# Altium footprint library Digital_Sampling_Board-20200820.PcbLib: 34 footprints (part 2 of 3)
Each footprint in its own frame and in the unit in brackets; x right, y up, seen from the top. Pads: shape width x height; smd on the part's side, far side on the other; paste and mask are expansions set on the pad; w line width, h text height; cw(c..) or ccw(c..) is an arc to the next point about the centre after c.
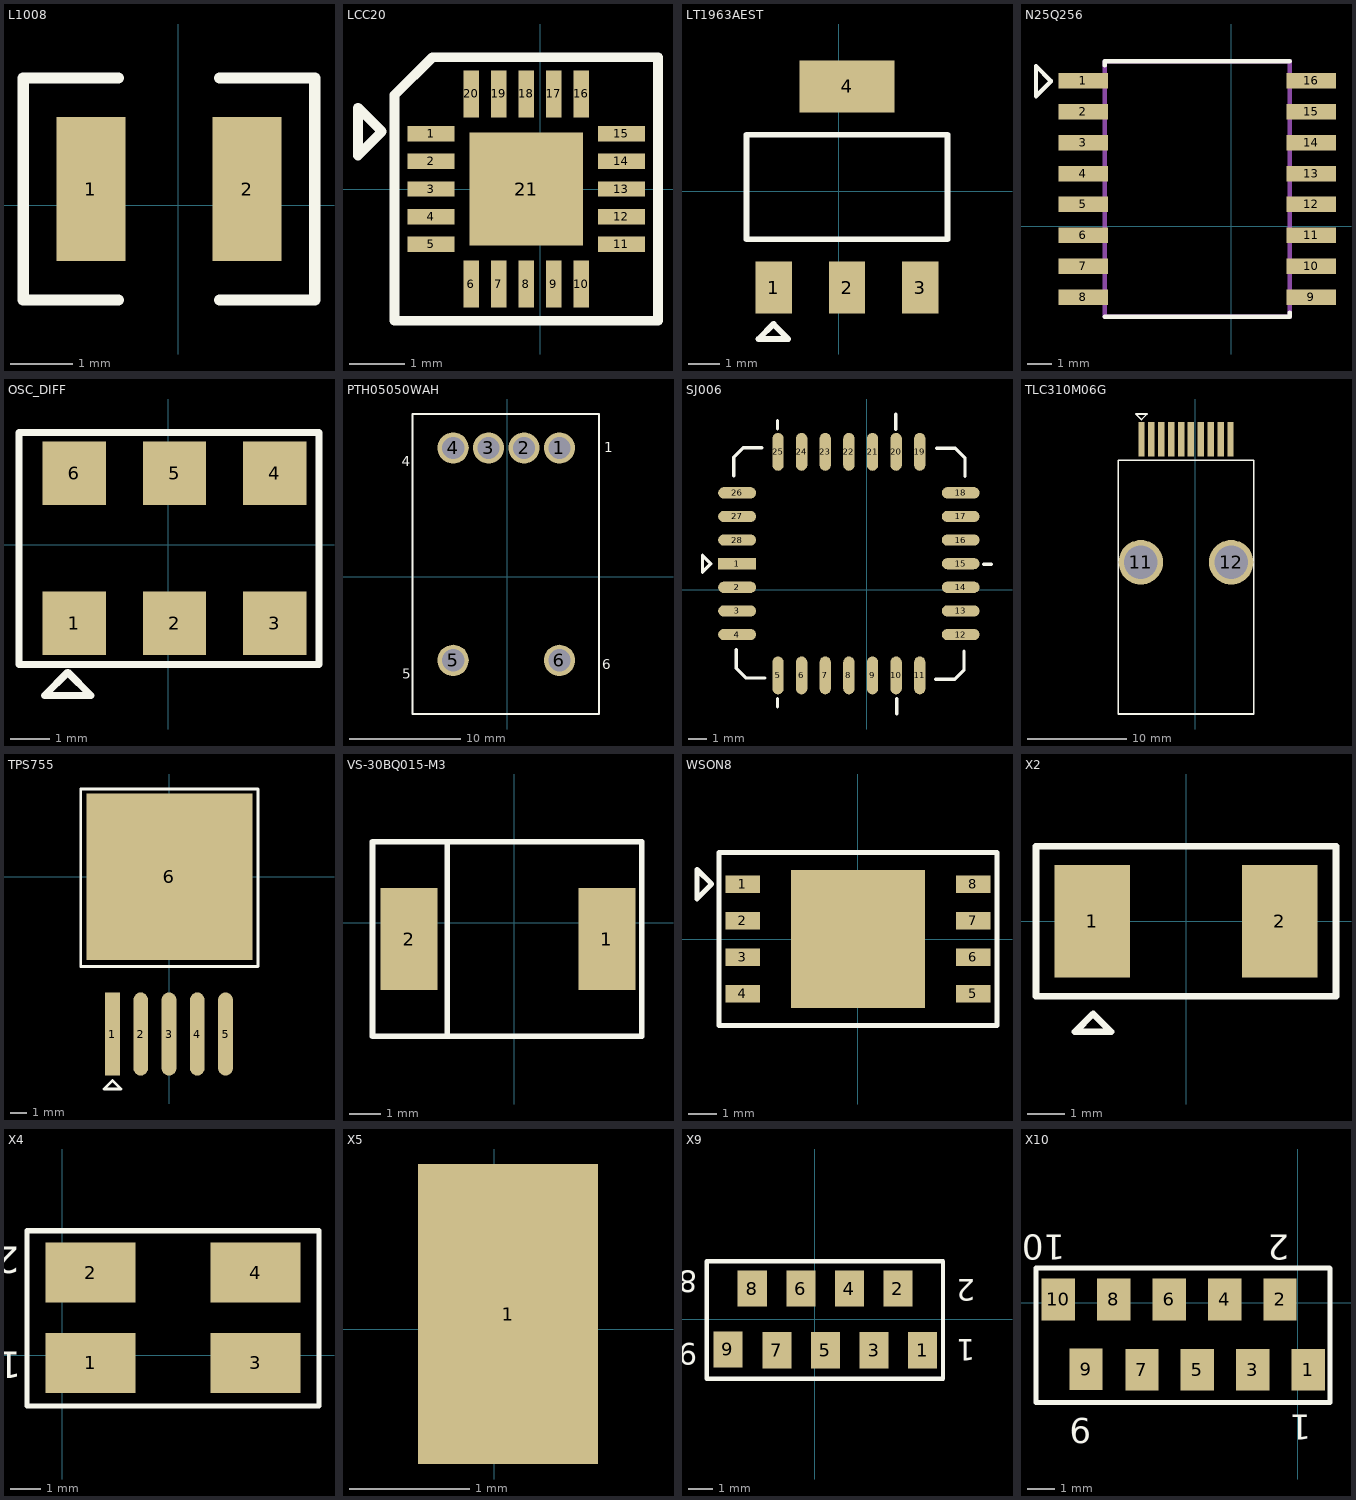
[diagram p1: the footprints below, top view; thin cyan lines are the x and y axes]

## L1008 [mm]
pads (2):
  rect 1.1x2.3 smd: 1(-1.401,0.264) 2(1.099,0.264)
Top Overlay:
  lines w0.178: -0.959,-1.514 -2.483,-1.514 -2.483,2.042 -0.959,2.042 ; 0.657,-1.514 2.181,-1.514 2.181,2.042 0.657,2.042

## LCC20 [mm]
pads (21):
  rect 0.85x0.28 smd: 1(-1.979,1) 2(-1.979,0.5) 3(-1.979,0) 4(-1.979,-0.5) 5(-1.979,-1) 11(1.471,-1) 12(1.471,-0.5) 13(1.471,0) 14(1.471,0.5) 15(1.471,1)
  rect 0.28x0.85 smd: 6(-1.254,-1.725) 7(-0.754,-1.725) 8(-0.254,-1.725) 9(0.246,-1.725) 10(0.746,-1.725) 16(0.746,1.725) 17(0.246,1.725) 18(-0.254,1.725) 19(-0.754,1.725) 20(-1.254,1.725)
  rect 2.05x2.05 smd: 21(-0.254,0)
Top Overlay:
  lines w0.178: -3.302,0.61 -2.87,1.041 -3.302,1.473 -3.302,0.61 ; -2.642,-2.388 2.134,-2.388 2.134,2.388 -1.956,2.388 -2.642,1.702 -2.642,-2.388

## LT1963AEST [mil]
pads (4):
  rect 45x65 smd: 1(-81,-120) 2(10,-120) 3(101,-120)
  rect 118x65 smd: 4(10,130)
Top Overlay:
  lines w7: -81,-166 -63,-184 -100,-184 -81,-165 ; -115,-60 -115,70 135,70 135,-60 -115,-60

## N25Q256 [mil]
pads (16):
  rect 80x25 smd: 1(-239.5,235) 2(-239.5,185) 3(-239.5,135) 4(-239.5,85) 5(-239.5,35) 6(-239.5,-15) 7(-239.5,-65) 8(-239.5,-115) 9(129.5,-115) 10(129.5,-65) 11(129.5,-15) 12(129.5,35) 13(129.5,85) 14(129.5,135) 15(129.5,185) 16(129.5,235)
Top Overlay:
  lines w7: -292,234 -316,210 -316,259 -292,235 ; -204.5,-146.5 94.5,-146.5 94.5,-140 ; -204.5,260 -204.5,266.5 94.5,266.5
Mechanical 11:
  lines w7: -204.5,-146.5 94.5,-146.5 94.5,266.5 -204.5,266.5 -204.5,-146.5

## OSC_DIFF [mm]
pads (6):
  rect 1.6x1.6 smd: 1(-2.375,-1.984) 2(0.165,-1.984) 3(2.705,-1.984) 4(2.705,1.816) 5(0.165,1.816) 6(-2.375,1.816)
Top Overlay:
  lines w0.178: -3.775,-3.023 3.825,-3.023 3.825,2.845 -3.775,2.845 -3.775,-3.023 ; -3.124,-3.81 -2.54,-3.226 -1.956,-3.81 -3.124,-3.81

## PTH05050WAH [mm]
pads (6):
  round 2.8 hole 2: 1(4.699,11.557) 2(1.519,11.557) 3(-1.661,11.557) 4(-4.841,11.557) 5(-4.841,-7.503) 6(4.699,-7.503)
Top Overlay:
  lines w0.178: -8.509,-12.319 8.255,-12.319 8.255,14.605 -8.509,14.605 -8.509,-12.319
  text "6" at 8.534,-8.28 h0.89
  text "5" at -9.411,-9.147 h0.89
  text "1" at 8.712,11.176 h0.89
  text "4" at -9.439,9.901 h0.89

## SJ006 [mil]
pads (28):
  rect 80x23.62 smd: 1(-274.62,55.19)
  oval 80x24 smd: 2(-274.62,5.19) 3(-274.62,-44.81) 4(-274.62,-94.81) 12(198.61,-94.81) 13(198.61,-44.81) 14(198.61,5.19) 16(198.61,105.19) 17(198.61,155.19) 18(198.61,205.19) 26(-274.62,205.19) 27(-274.62,155.19) 28(-274.62,105.19)
  oval 24x80 smd: 5(-188.01,-181.43) 6(-138.01,-181.43) 7(-88.01,-181.43) 8(-38.01,-181.43) 9(11.99,-181.43) 10(61.99,-181.43) 11(111.99,-181.43) 19(111.99,291.8) 20(61.99,291.8) 21(11.99,291.8) 22(-38.01,291.8) 23(-88.01,291.8) 24(-138.01,291.8) 25(-188.01,291.8)
  oval 80x23.62 smd: 15(198.61,55.19)
Top Overlay:
  lines w7: -281.79,240.78 -281.79,280.78 -261.79,300.78 -221.79,300.78 ; -276.12,-126.63 -276.12,-166.63 -256.12,-186.63 -216.12,-186.63 ; -189,-248 -189,-231 ; -189,341 -189,358 ; 61,340 61,372 ; 63,-263 63,-231 ; 145.78,-189.62 185.78,-189.62 205.78,-169.62 205.78,-129.62 ; 147.58,299.76 187.58,299.76 207.58,279.76 207.58,239.76 ; 247,54 264,54 ; -348,37 -330,55 -348,73 -348,37

## TLC310M06G [mm]
pads (12):
  rect 0.65x3.5 smd: 1(-5.461,-8.255) 2(-4.461,-8.255) 3(-3.461,-8.255) 4(-2.461,-8.255) 5(-1.461,-8.255) 6(-0.461,-8.255) 7(0.539,-8.255) 8(1.539,-8.255) 9(2.539,-8.255) 10(3.539,-8.255)
  round 4.5 hole 3.4: 11(-5.531,-20.695) 12(3.609,-20.695)
Top Overlay:
  lines w0.178: -5.486,-6.248 -6.045,-5.69 -4.902,-5.69 -5.461,-6.248 ; -7.821,-36.045 -7.821,-10.363 5.899,-10.363 5.899,-36.045 -7.821,-36.045

## TPS755 [mil]
pads (6):
  rect 35x196.85 smd: 1(-135,-372)
  oval 35x196.85 smd: 2(-68.07,-372) 3(-1.14,-372) 4(65.79,-372) 5(132.72,-372)
  rect 393.7x393.7 smd: 6(0,0)
Top Overlay:
  lines w7: -210,-212 -210,208 210,208 210,-212 -210,-212 ; -155,-502 -115,-502 -135,-482 -155,-502

## VS-30BQ015-M3 [mm]
pads (2):
  rect 1.8x3.2 smd: 1(2.908,-0.508) 2(-3.302,-0.508)
Top Overlay:
  lines w0.178: -2.098,-3.556 -2.098,2.54 ; -4.445,-3.556 3.998,-3.556 3.998,2.54 -4.445,2.54 -4.445,-3.556

## WSON8 [mm]
pads (9):
  rect 1.2x0.6 smd: 1(-4,1.905) 2(-4,0.635) 3(-4,-0.635) 4(-4,-1.905) 5(4,-1.905) 6(4,-0.635) 7(4,0.635) 8(4,1.905)
  rect 4.65x4.8 smd: ""(0,0)
Top Overlay:
  lines w0.178: -5.588,1.397 -5.08,1.905 -5.588,2.413 -5.588,1.397 ; -4.826,-3 4.826,-3 4.826,3 -4.826,3 -4.826,-3

## X2 [mm]
pads (2):
  rect 2x3 smd: 1(-2.5,0) 2(2.5,0)
Top Overlay:
  lines w0.178: -4,-2 -4,2 4,2 4,-2 -4,-2 ; -2.959,-2.952 -1.994,-2.952 -2.476,-2.469 -2.959,-2.952

## X4 [mm]
pads (4):
  rect 3x2 smd: 1(0.94,-0.254) 2(0.94,2.754) 3(6.44,-0.254) 4(6.44,2.754)
Top Overlay:
  lines w0.178: -1.175,-1.691 -1.175,4.151 7.461,4.151 8.549,4.151 8.549,-1.691 7.461,-1.691 -1.175,-1.691
  text "2" at -1.442,3.614 h0.89
  text "1" at -1.374,0.112 h0.89

## X5 [mm]
pads (1):
  rect 1.5x2.5 smd: 1(0.114,0.127)

## X9 [mm]
pads (9):
  rect 1.2x1.5 smd: 1(4.444,-1.27) 2(3.428,1.27) 3(2.444,-1.27) 4(1.428,1.27) 5(0.444,-1.27) 6(-0.572,1.27) 7(-1.556,-1.27) 8(-2.572,1.27) 9(-3.572,-1.24)
Top Overlay:
  lines w0.178: -4.445,-2.44 1.913,-2.44 4.432,-2.44 5.283,-2.44 5.283,2.4 4.432,2.4 1.913,2.4 -4.445,2.4 -4.445,-2.44
  text "8" at -4.838,1.994 h0.89
  text "9" at -4.848,-0.989 h0.89
  text "1" at 6.619,-0.819 h0.89
  text "2" at 6.619,1.655 h0.89

## X10 [mm]
pads (10):
  rect 1.2x1.5 smd: 1(0.38,-2.413) 2(-0.636,0.127) 3(-1.62,-2.413) 4(-2.636,0.127) 5(-3.62,-2.413) 6(-4.636,0.127) 7(-5.62,-2.413) 8(-6.636,0.127) 9(-7.636,-2.383) 10(-8.636,0.127)
Top Overlay:
  lines w0.178: -9.441,-3.583 -9.441,1.257 -2.151,1.257 0.368,1.257 1.156,1.257 1.17,1.243 1.17,-3.583 0.368,-3.583 -2.151,-3.583 -9.441,-3.583
  text "2" at -0.302,2.464 h0.89
  text "1" at 0.493,-4.03 h0.89
  text "9" at -7.439,-4.15 h0.89
  text "10" at -8.387,2.467 h0.89